# Altium footprint library RESDFN3_380X370X120L120X120N.PcbLib: 1 footprints
Each footprint in its own frame and in the unit in brackets; x right, y up, seen from the top. Pads: shape width x height; smd on the part's side, far side on the other; paste and mask are expansions set on the pad; w line width, h text height; cw(c..) or ccw(c..) is an arc to the next point about the centre after c.
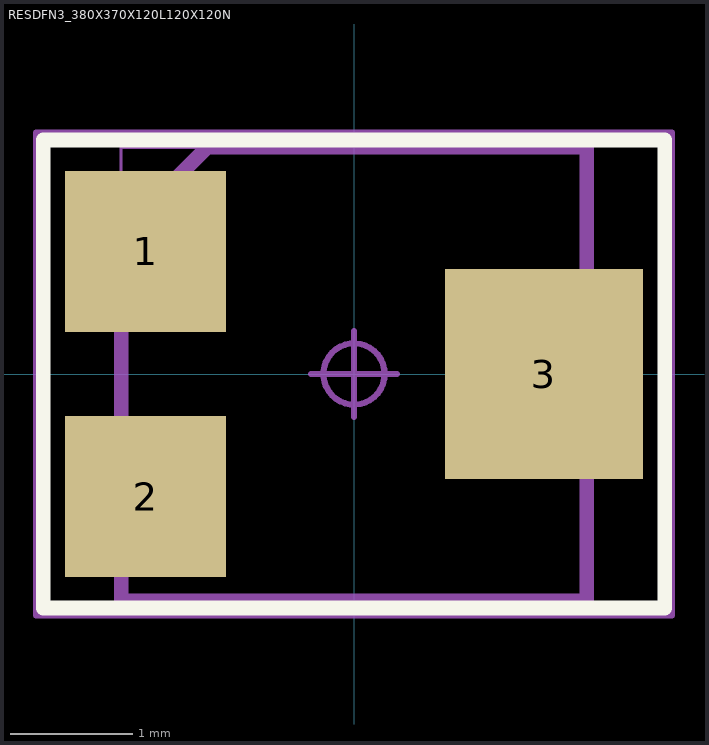
[diagram p0: the footprint, top view; thin cyan lines are the x and y axes]

## RESDFN3_380X370X120L120X120N [mm] "Resistor, Dual Flat No-Lead, 3.25 mm Pitch, 3 pin; 3.80 mm L X 3.70 mm W X 1.20 mm H Body"
height 1.2
pads (3):
  rect 1.312x1.312 smd: 1(-1.7,1) 2(-1.7,-1)
  rect 1.612x1.712 smd paste-1.712: 3(1.55,0)
Top Overlay:
  lines w0.12: -2.536,-1.91 -2.536,1.91 2.536,1.91 2.536,-1.91 -2.536,-1.91
Top Paste:
  region: 2.238,-0.738 1.668,-0.738 1.668,-0.118 2.238,-0.118
  region: 2.238,0.118 1.668,0.118 1.668,0.738 2.238,0.738
  region: 1.432,-0.738 0.862,-0.738 0.862,-0.118 1.432,-0.118
  region: 1.432,0.118 0.862,0.118 0.862,0.738 1.432,0.738
Mechanical 3:
  lines w0.12: -1.9,-1.85 1.9,-1.85 1.9,1.85 -1.198,1.85 -1.9,1.148 -1.9,-1.85
Mechanical 5:
  lines w0.025: -2.3,-1.6 -1.1,-1.6 -1.1,-0.4 -2.3,-0.4 -2.3,-1.6 ; -2.3,0.4 -1.1,0.4 -1.1,1.6 -2.3,1.6 -2.3,0.4 ; -1.9,-1.85 -1.9,1.85 1.9,1.85 1.9,-1.85 -1.9,-1.85 ; 0.8,-0.8 2.3,-0.8 2.3,0.8 0.8,0.8 0.8,-0.8
Mechanical 7:
  circle w0.05: c0,0 r0.25
  lines w0.05: -0.35,0 0.35,0 ; 0,-0.35 0,0.35 ; -2.596,-1.97 -2.596,1.97 2.596,1.97 2.596,-1.97 -2.596,-1.97
Mechanical 9:
  text "'.Designator'" at -6.985,2.921 h1.52
3D body "RESDFN3_380X370X120L120X120.STEP": height 1.2, standoff 0, extent -2.3,-1.85 2.3,1.85
3D body: height 3.65, standoff -3.65, extent -2.596,-1.97 2.596,1.97